# Altium schematic symbol library IC-SPI.SchLib: 5 symbols
Pins are listed as number, name and electrical type; pins without a type are passive.

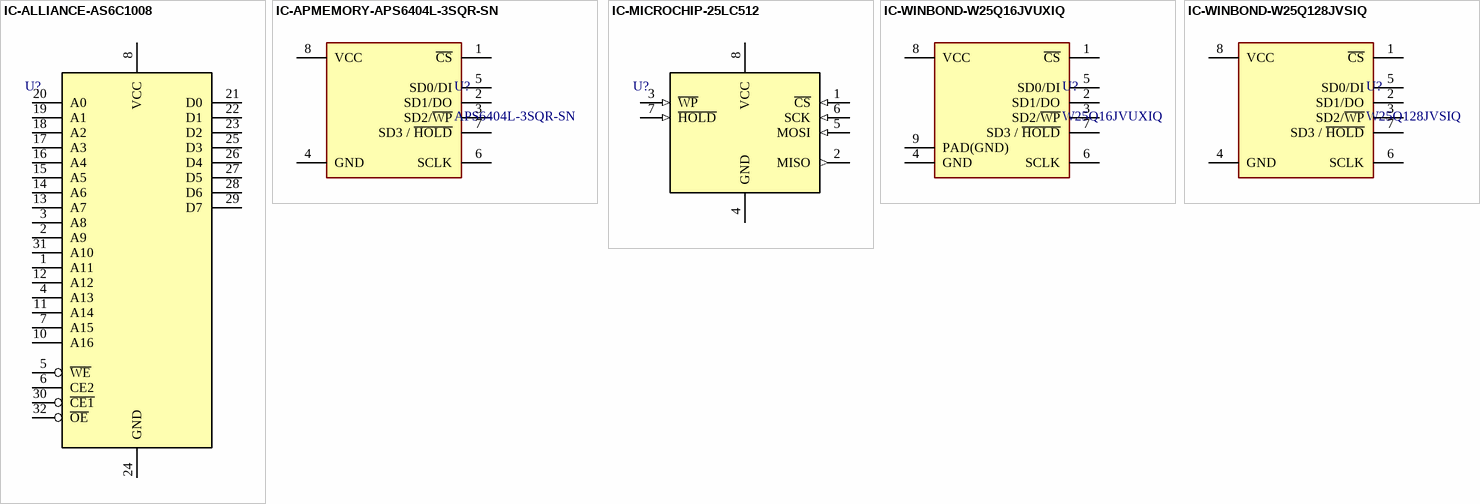
[diagram p0: symbols IC-ALLIANCE-AS6C1008 to IC-WINBOND-W25Q128JVSIQ]

## IC-ALLIANCE-AS6C1008
designator U?  (value not drawn)
pins: 1 A11, 2 A9, 3 A8, 4 A13, 5 ~{WE} (power), 6 CE2 (power), 7 A15, 8 VCC (power), 10 A16, 11 A14, 12 A12, 13 A7, 14 A6, 15 A5, 16 A4, 17 A3, 18 A2, 19 A1, 20 A0, 21 D0 (power), 22 D1 (power), 23 D2 (power), 24 GND (power), 25 D3 (power), 26 D4 (power), 27 D5 (power), 28 D6 (power), 29 D7 (power), 30 ~{CE1} (power), 31 A10, 32 ~{OE} (power)

## IC-APMEMORY-APS6404L-3SQR-SN
designator U?, comment APS6404L-3SQR-SN
IC,PSRAM,QSPI,8Mx8,SO8; LCSC: C5333729; Supplier 1: Mouser; Supplier Part Number 1: 878-APS6404L-3SQR-SN
footprint SO127P600-8N (SO8)
pins: 1 ~{CS}, 2 SD1/DO, 3 SD2/~{WP}, 4 GND, 5 SD0/DI, 6 SCLK, 7 SD3 / ~{HOLD}, 8 VCC

## IC-MICROCHIP-25LC512
designator U?  (value not drawn)
footprint SO127P600-8N (SO8)
pins: 1 ~{CS} (in), 2 MISO (out), 3 ~{WP} (in), 4 GND (power), 5 MOSI (in), 6 SCK (in), 7 ~{HOLD} (in), 8 VCC (power)

## IC-WINBOND-W25Q16JVUXIQ
designator U?, comment W25Q16JVUXIQ
IC,FLASH,SPI,; Supplier 1: Digikey; Supplier Part Number 1: 256-W25Q16JVUXIQTRCT-ND
footprint SO127P790-8N (SO8)
pins: 1 ~{CS}, 2 SD1/DO, 3 SD2/~{WP}, 4 GND, 5 SD0/DI, 6 SCLK, 7 SD3 / ~{HOLD}, 8 VCC, 9 PAD(GND)

## IC-WINBOND-W25Q128JVSIQ
designator U?, comment W25Q128JVSIQ
IC,FLASH,QSPI,16Mx8; Supplier 1: Digikey; Supplier Part Number 1: W25Q128JVSIQCT-ND; LCSC: C97521
footprint SO127P790-8N (SO8)
pins: 1 ~{CS}, 2 SD1/DO, 3 SD2/~{WP}, 4 GND, 5 SD0/DI, 6 SCLK, 7 SD3 / ~{HOLD}, 8 VCC